# Altium schematic symbol library ERJ-2RKF1002X.SchLib: 1 symbol
Pins are listed as number, name and electrical type; pins without a type are passive.

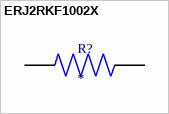
[diagram p0: symbol ERJ2RKF1002X]

## ERJ2RKF1002X
designator R?
MP: ERJ2RKF1002X; MF: {'manufacturer': u'Panasonic'}; Package: None; Value: *; Availability: Unavailable; Price: None
footprint RES_ERJ2RKF1002X
pins: 1, 2